# Altium footprint library niceCircuits.PcbLib: 25 footprints (part 1 of 2)
Each footprint in its own frame and in the unit in brackets; x right, y up, seen from the top. Pads: shape width x height; smd on the part's side, far side on the other; paste and mask are expansions set on the pad; w line width, h text height; cw(c..) or ccw(c..) is an arc to the next point about the centre after c.
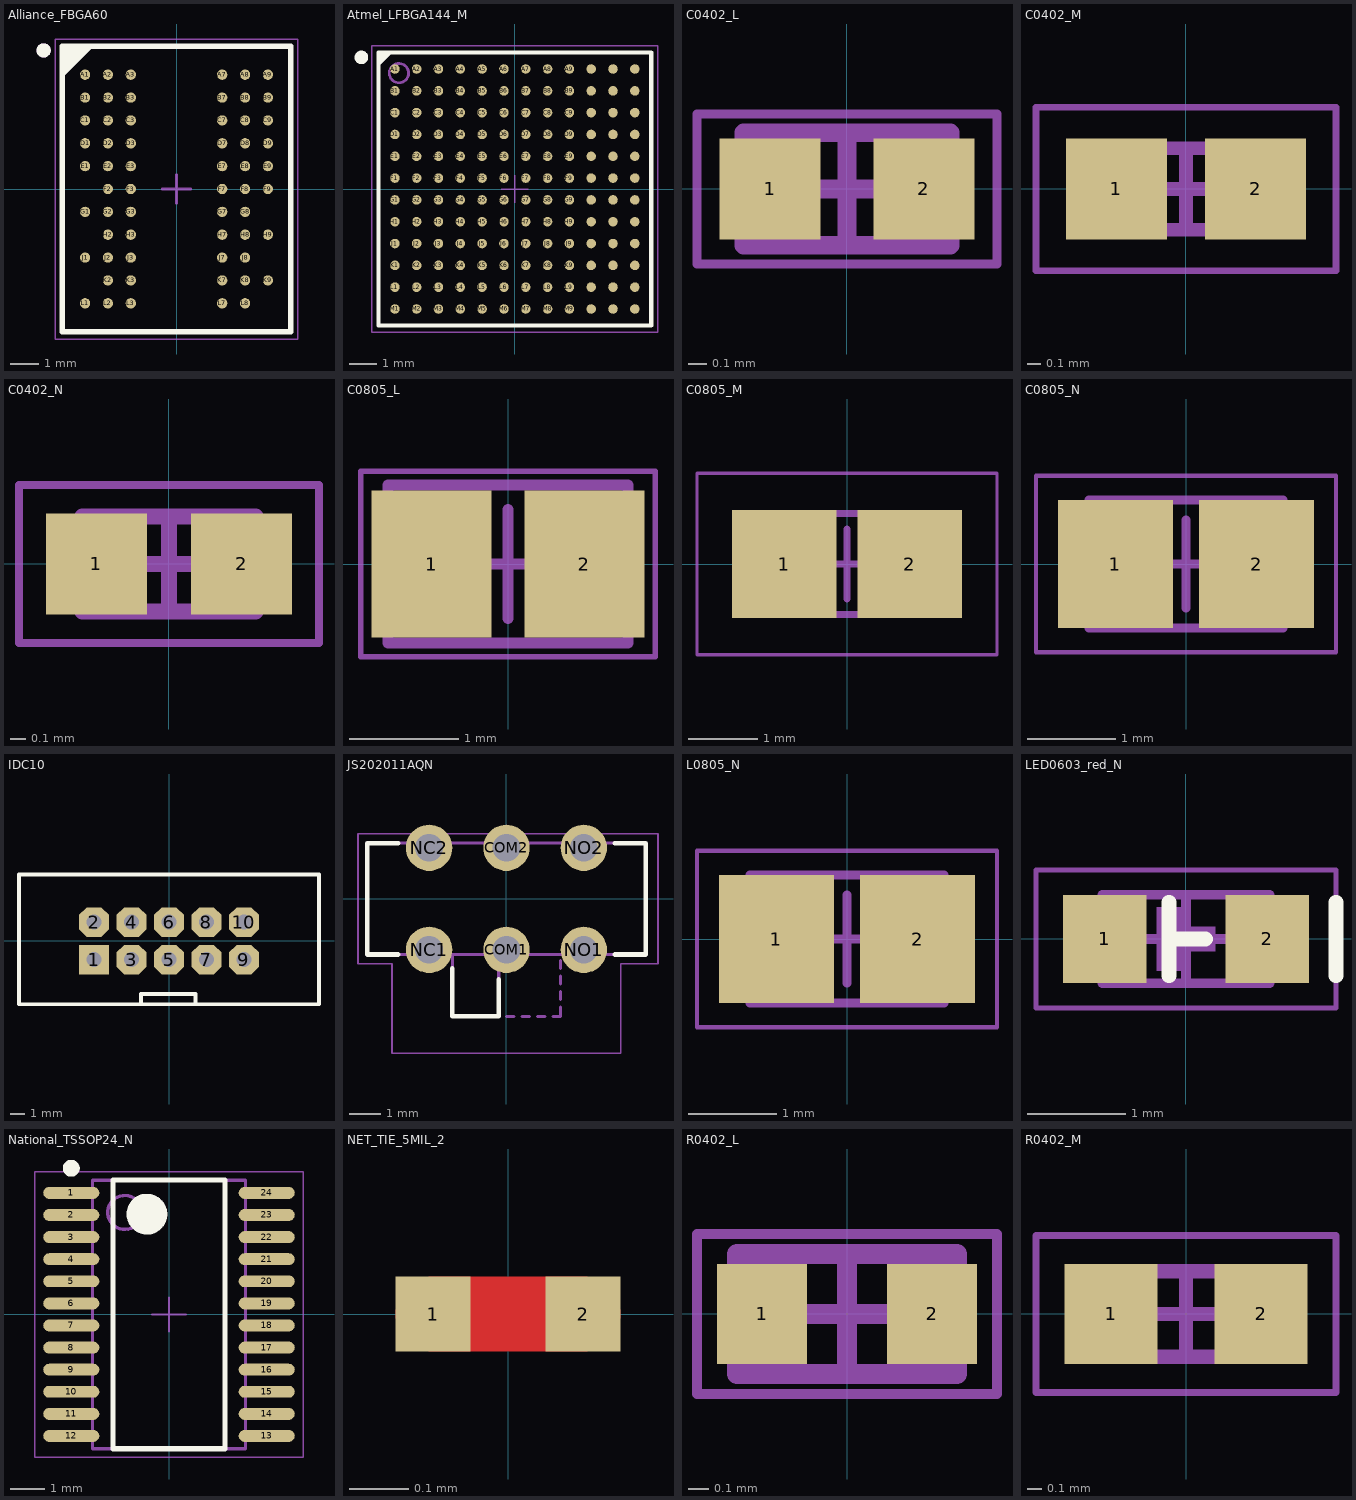
[diagram p0: the footprints below, top view; thin cyan lines are the x and y axes]

## Alliance_FBGA60 [mm] "BGA, 60-Leads, Body 8.00x10.00mmx1.20mm, Pitch 0.80mm"
height 1.2
pads (60):
  round 0.36 smd: A1(-3.2,4) A2(-2.4,4) A3(-1.6,4) A7(1.6,4) A8(2.4,4) A9(3.2,4) B1(-3.2,3.2) B2(-2.4,3.2) B3(-1.6,3.2) B7(1.6,3.2) B8(2.4,3.2) B9(3.2,3.2) C1(-3.2,2.4) C2(-2.4,2.4) C3(-1.6,2.4) C7(1.6,2.4) C8(2.4,2.4) C9(3.2,2.4) D1(-3.2,1.6) D2(-2.4,1.6) D3(-1.6,1.6) D7(1.6,1.6) D8(2.4,1.6) D9(3.2,1.6) E1(-3.2,0.8) E2(-2.4,0.8) E3(-1.6,0.8) E7(1.6,0.8) E8(2.4,0.8) E9(3.2,0.8) F2(-2.4,0) F3(-1.6,0) F7(1.6,0) F8(2.4,0) F9(3.2,0) G1(-3.2,-0.8) G2(-2.4,-0.8) G3(-1.6,-0.8) G7(1.6,-0.8) G8(2.4,-0.8) H2(-2.4,-1.6) H3(-1.6,-1.6) H7(1.6,-1.6) H8(2.4,-1.6) H9(3.2,-1.6) J1(-3.2,-2.4) J2(-2.4,-2.4) J3(-1.6,-2.4) J7(1.6,-2.4) J8(2.4,-2.4) K2(-2.4,-3.2) K3(-1.6,-3.2) K7(1.6,-3.2) K8(2.4,-3.2) K9(3.2,-3.2) L1(-3.2,-4) L2(-2.4,-4) L3(-1.6,-4) L7(1.6,-4) L8(2.4,-4)
Top Overlay:
  circle w0.25: c-4.65,4.85 r0.125
  region: -3.02,5 -4,4.02 -4,5
  lines w0.2: -4,4.02 -3.02,5 ; -4,-5 4,-5 4,5 -4,5 -4,-5
AsmT:
  circle w0.25: c-4.65,4.85 r0.125
  region: -3.02,5 -4,4.02 -4,5
  lines w0.1: -4,-5 4,-5 4,5 -4,5 -4,-5
  text ".Designator" at 0.4,2.5 h0.5
  text ".Comment" at -0.7,2.5 h0.5
CourtT:
  lines w0.05: -4.25,-5.25 4.25,-5.25 4.25,5.25 -4.25,5.25 -4.25,-5.25
  lines w0.1: -0.5,0 0.5,0 ; 0,-0.5 0,0.5
3D body: height 1.2, standoff 0.25, extent -4,-5 4,5

## Atmel_LFBGA144_M [mm] "BGA, 144-Leads, Body 10.0x10.0mm,  Pitch 0.80mm"
height 1.4
pads (144):
  round 0.35 smd: A1(-4.4,4.4) A2(-3.6,4.4) A3(-2.8,4.4) A4(-2,4.4) A5(-1.2,4.4) A6(-0.4,4.4) A7(0.4,4.4) A8(1.2,4.4) A9(2,4.4) A10(2.8,4.4) A11(3.6,4.4) A12(4.4,4.4) B1(-4.4,3.6) B2(-3.6,3.6) B3(-2.8,3.6) B4(-2,3.6) B5(-1.2,3.6) B6(-0.4,3.6) B7(0.4,3.6) B8(1.2,3.6) B9(2,3.6) B10(2.8,3.6) B11(3.6,3.6) B12(4.4,3.6) C1(-4.4,2.8) C2(-3.6,2.8) C3(-2.8,2.8) C4(-2,2.8) C5(-1.2,2.8) C6(-0.4,2.8) C7(0.4,2.8) C8(1.2,2.8) C9(2,2.8) C10(2.8,2.8) C11(3.6,2.8) C12(4.4,2.8) D1(-4.4,2) D2(-3.6,2) D3(-2.8,2) D4(-2,2) D5(-1.2,2) D6(-0.4,2) D7(0.4,2) D8(1.2,2) D9(2,2) D10(2.8,2) D11(3.6,2) D12(4.4,2) E1(-4.4,1.2) E2(-3.6,1.2) E3(-2.8,1.2) E4(-2,1.2) E5(-1.2,1.2) E6(-0.4,1.2) E7(0.4,1.2) E8(1.2,1.2) E9(2,1.2) E10(2.8,1.2) E11(3.6,1.2) E12(4.4,1.2) F1(-4.4,0.4) F2(-3.6,0.4) F3(-2.8,0.4) F4(-2,0.4) F5(-1.2,0.4) F6(-0.4,0.4) F7(0.4,0.4) F8(1.2,0.4) F9(2,0.4) F10(2.8,0.4) F11(3.6,0.4) F12(4.4,0.4) G1(-4.4,-0.4) G2(-3.6,-0.4) G3(-2.8,-0.4) G4(-2,-0.4) G5(-1.2,-0.4) G6(-0.4,-0.4) G7(0.4,-0.4) G8(1.2,-0.4) G9(2,-0.4) G10(2.8,-0.4) G11(3.6,-0.4) G12(4.4,-0.4) H1(-4.4,-1.2) H2(-3.6,-1.2) H3(-2.8,-1.2) H4(-2,-1.2) H5(-1.2,-1.2) H6(-0.4,-1.2) H7(0.4,-1.2) H8(1.2,-1.2) H9(2,-1.2) H10(2.8,-1.2) H11(3.6,-1.2) H12(4.4,-1.2) J1(-4.4,-2) J2(-3.6,-2) J3(-2.8,-2) J4(-2,-2) J5(-1.2,-2) J6(-0.4,-2) J7(0.4,-2) J8(1.2,-2) J9(2,-2) J10(2.8,-2) J11(3.6,-2) J12(4.4,-2) K1(-4.4,-2.8) K2(-3.6,-2.8) K3(-2.8,-2.8) K4(-2,-2.8) K5(-1.2,-2.8) K6(-0.4,-2.8) K7(0.4,-2.8) K8(1.2,-2.8) K9(2,-2.8) K10(2.8,-2.8) K11(3.6,-2.8) K12(4.4,-2.8) L1(-4.4,-3.6) L2(-3.6,-3.6) L3(-2.8,-3.6) L4(-2,-3.6) L5(-1.2,-3.6) L6(-0.4,-3.6) L7(0.4,-3.6) L8(1.2,-3.6) L9(2,-3.6) L10(2.8,-3.6) L11(3.6,-3.6) L12(4.4,-3.6) M1(-4.4,-4.4) M2(-3.6,-4.4) M3(-2.8,-4.4) M4(-2,-4.4) M5(-1.2,-4.4) M6(-0.4,-4.4) M7(0.4,-4.4) M8(1.2,-4.4) M9(2,-4.4) M10(2.8,-4.4) M11(3.6,-4.4) M12(4.4,-4.4)
Top Overlay:
  circle w0.25: c-5.626,4.826 r0.125
  region: -4.579,5 -5,4.579 -5,5
  lines w0.152: -5,4.579 -4.579,5 ; -5,-5 -5,5 5,5 5,-5 -5,-5
AsmT:
  circle w0.1: c-4.25,4.25 r0.354
  lines w0.1: -5,-5 -5,5 5,5 5,-5 -5,-5
  text ".Designator" at 0.4,2.5 h0.5
  text ".Comment" at -0.7,2.5 h0.5
CourtT:
  lines w0.05: -0.5,0 0.5,0 ; 0,-0.5 0,0.5 ; -5.25,-5.25 -5.25,5.25 5.25,5.25 5.25,-5.25 -5.25,-5.25
3D body: height 1.4, standoff 0.25, extent -5,-5 5,5

## C0402_L [mm] "Chip Capacitor, 2-Leads, Body 1.00x0.50mm, IPC High Density"
height 0.6
pads (2):
  rect 0.54x0.54 smd: 1(-0.41,0) 2(0.41,0)
AsmT:
  lines w0.1: -0.55,-0.3 -0.55,0.3 0.55,0.3 0.55,-0.3 -0.55,-0.3
  text ".Comment" at -0.8,-0.575 h0.2
  text ".Designator" at -0.8,0.425 h0.2
CourtT:
  lines w0.05: -0.8,-0.4 -0.8,0.4 0.8,0.4 0.8,-0.4 -0.8,-0.4
  lines w0.1: -0.3,0 0.3,0 ; 0,-0.3 0,0.3
3D body: height 0.6, standoff 0, extent -0.35,-0.3 0.35,0.3
3D body: height 0.6, standoff 0, extent -0.55,-0.3 -0.35,0.3
3D body: height 0.6, standoff 0, extent 0.35,-0.3 0.55,0.3

## C0402_M [mm] "Chip Capacitor, 2-Leads, Body 1.00x0.50mm, IPC Low Density"
height 0.6
pads (2):
  rect 0.74x0.74 smd: 1(-0.51,0) 2(0.51,0)
AsmT:
  lines w0.1: -0.55,-0.3 0.55,-0.3 0.55,0.3 -0.55,0.3 -0.55,-0.3
  text ".Designator" at -1.1,0.425 h0.2
  text ".Comment" at -1.1,-0.575 h0.2
CourtT:
  lines w0.05: -1.1,-0.6 1.1,-0.6 1.1,0.6 -1.1,0.6 -1.1,-0.6
  lines w0.1: -0.3,0 0.3,0 ; 0,-0.3 0,0.3
3D body: height 0.6, standoff 0, extent 0.35,-0.3 0.55,0.3
3D body: height 0.6, standoff 0, extent -0.55,-0.3 -0.35,0.3
3D body: height 0.6, standoff 0, extent -0.35,-0.3 0.35,0.3

## C0402_N [mm] "Chip Capacitor, 2-Leads, Body 1.00x0.50mm, IPC Medium Density"
height 0.6
pads (2):
  rect 0.64x0.64 smd: 1(-0.46,0) 2(0.46,0)
AsmT:
  lines w0.1: -0.55,-0.3 0.55,-0.3 0.55,0.3 -0.55,0.3 -0.55,-0.3
  text ".Comment" at -0.95,-0.575 h0.2
  text ".Designator" at -0.95,0.425 h0.2
CourtT:
  lines w0.05: -0.95,-0.5 0.95,-0.5 0.95,0.5 -0.95,0.5 -0.95,-0.5
  lines w0.1: -0.3,0 0.3,0 ; 0,-0.3 0,0.3
3D body: height 0.6, standoff 0, extent 0.35,-0.3 0.55,0.3
3D body: height 0.6, standoff 0, extent -0.55,-0.3 -0.35,0.3
3D body: height 0.6, standoff 0, extent -0.35,-0.3 0.35,0.3

## C0805_L [mm] "Chip Capacitor, 2-Leads, Body 2.00x1.25mm, IPC High Density"
height 1.1
pads (2):
  rect 1.1x1.35 smd: 1(-0.7,0) 2(0.7,0)
AsmT:
  lines w0.1: -1.1,-0.725 1.1,-0.725 1.1,0.725 -1.1,0.725 -1.1,-0.725
  text ".Comment" at -1,-0.35 h0.2
  text ".Designator" at -1,0.2 h0.2
CourtT:
  lines w0.05: -1.35,-0.85 1.35,-0.85 1.35,0.85 -1.35,0.85 -1.35,-0.85
  lines w0.1: -0.5,0 0.5,0 ; 0,-0.5 0,0.5
3D body: height 1.1, standoff 0, extent 0.6,-0.725 1.1,0.725
3D body: height 1.1, standoff 0, extent -1.1,-0.725 -0.6,0.725
3D body: height 1.1, standoff 0, extent -0.6,-0.725 0.6,0.725

## C0805_M [mm] "Chip Capacitor, 2-Leads, Body 2.00x1.25mm, IPC Low Density"
height 1.1
pads (2):
  rect 1.5x1.55 smd: 1(-0.9,0) 2(0.9,0)
AsmT:
  lines w0.1: -1.1,-0.725 -1.1,0.725 1.1,0.725 1.1,-0.725 -1.1,-0.725
  text ".Designator" at -1,0.2 h0.2
  text ".Comment" at -1,-0.35 h0.2
CourtT:
  lines w0.05: -2.15,-1.3 -2.15,1.3 2.15,1.3 2.15,-1.3 -2.15,-1.3
  lines w0.1: -0.5,0 0.5,0 ; 0,-0.5 0,0.5
3D body: height 1.1, standoff 0, extent -0.6,-0.725 0.6,0.725
3D body: height 1.1, standoff 0, extent -1.1,-0.725 -0.6,0.725
3D body: height 1.1, standoff 0, extent 0.6,-0.725 1.1,0.725

## C0805_N [mm] "Chip Capacitor, 2-Leads, Body 2.00x1.25mm, IPC Medium Density"
height 1.1
pads (2):
  rect 1.3x1.45 smd: 1(-0.8,0) 2(0.8,0)
AsmT:
  lines w0.1: -1.1,-0.725 -1.1,0.725 1.1,0.725 1.1,-0.725 -1.1,-0.725
  text ".Comment" at -1,-0.35 h0.2
  text ".Designator" at -1,0.2 h0.2
CourtT:
  lines w0.05: -1.7,-1 -1.7,1 1.7,1 1.7,-1 -1.7,-1
  lines w0.1: -0.5,0 0.5,0 ; 0,-0.5 0,0.5
3D body: height 1.1, standoff 0, extent -0.6,-0.725 0.6,0.725
3D body: height 1.1, standoff 0, extent -1.1,-0.725 -0.6,0.725
3D body: height 1.1, standoff 0, extent 0.6,-0.725 1.1,0.725

## IDC10 [mm]
pads (10):
  rect 2x2 hole 1: 1(-5.08,-1.27)
  oct 2x2 hole 1: 2(-5.08,1.27) 3(-2.54,-1.27) 4(-2.54,1.27) 5(0,-1.27) 6(0,1.27) 7(2.54,-1.27) 8(2.54,1.27) 9(5.08,-1.27) 10(5.08,1.27)
Top Overlay:
  lines w0.254: -1.9,-4.3 -1.9,-3.6 1.8,-3.6 1.8,-4.3 ; -10.16,-4.3 -10.16,4.5 10.16,4.5 10.16,-4.3 -10.16,-4.3
AsmT:
  lines w0.051: -1.9,-4.318 -1.9,-3.6 1.8,-3.6 1.8,-4.318 ; -10.16,-4.318 10.16,-4.318 10.16,4.572 -10.16,4.572 -10.16,-4.318
  text ".Comment" at -2.286,-1.016 h0.6
  text ".Designator" at -2.794,0.254 h0.6
Mechanical 29:
  lines w0.051: -1.9,-4.318 -1.9,-3.6 1.8,-3.6 1.8,-4.318 ; -10.16,-4.318 -10.16,4.572 10.16,4.572 10.16,-4.318 -10.16,-4.318
  text ".Designator" at -2.794,0.254 h0.6
  text ".Comment" at -2.286,-1.016 h0.6
3D body: height 9, standoff -3.5, extent -10.16,-4.325 10.16,4.475

## JS202011AQN [mm]
pads (6):
  round 1.5 hole 0.9: COM1(0,-1.65) COM2(0,1.65) NC1(-2.5,-1.65) NC2(-2.5,1.65) NO1(2.5,-1.65) NO2(2.5,1.65)
Top Overlay:
  lines w0.152: -3.5,-1.8 -4.5,-1.8 -4.5,1.8 -3.5,1.8 ; -1.75,-2.25 -1.75,-3.8 -0.25,-3.8 -0.25,-2.6 ; 3.5,-1.8 4.5,-1.8 4.5,1.8 3.5,1.8
AsmT:
  lines w0.1: -1.75,-1.8 -1.75,-3.8 -0.25,-3.8 -0.25,-1.8 ; 0,-3.8 0.25,-3.8 ; 0.5,-3.8 0.75,-3.8 ; 1,-3.8 1.25,-3.8 ; 1.5,-3.8 1.75,-3.8 1.75,-3.5 ; 1.75,-3.25 1.75,-3 ; 1.75,-2.75 1.75,-2.5 ; 1.75,-2.25 1.75,-2 ; -4.5,-1.8 4.5,-1.8 4.5,1.8 -4.5,1.8 -4.5,-1.8
  text ".Designator" at -2.794,0.254 h0.6
  text ".Comment" at -2.286,-1.016 h0.6
CourtT:
  lines w0.05: -4.8,-2.1 -4.8,2.1 4.9,2.1 4.9,-2.1 3.7,-2.1 3.7,-5 -3.7,-5 -3.7,-2.1 -4.8,-2.1
3D body: height 3.5, standoff 0, extent -4.5,-1.8 4.5,1.8
3D body: height 3.25, standoff 1.75, extent -1.75,-3.8 -0.25,-1.8
3D body: height 0, standoff -3, extent -2.8,-1.8 -2.2,-1.5
3D body: height 0, standoff -3, extent -0.3,-1.8 0.3,-1.5
3D body: height 0, standoff -3, extent 2.2,-1.8 2.8,-1.5
3D body: height 0, standoff -3, extent 2.2,1.5 2.8,1.8
3D body: height 0, standoff -3, extent -0.3,1.5 0.3,1.8
3D body: height 0, standoff -3, extent -2.8,1.5 -2.2,1.8

## L0805_N [mm] "Chip Inductor, 2-Leads, Body 2.00x1.25mm, IPC Medium Density"
height 1.1
pads (2):
  rect 1.3x1.45 smd: 1(-0.8,0) 2(0.8,0)
AsmT:
  lines w0.1: -1.1,-0.725 1.1,-0.725 1.1,0.725 -1.1,0.725 -1.1,-0.725
  text ".Designator" at -1,0.2 h0.2
  text ".Comment" at -1,-0.35 h0.2
CourtT:
  lines w0.05: -1.7,-1 1.7,-1 1.7,1 -1.7,1 -1.7,-1
  lines w0.1: -0.5,0 0.5,0 ; 0,-0.5 0,0.5
3D body: height 1.1, standoff 0, extent 0.6,-0.725 1.1,0.725
3D body: height 1.1, standoff 0, extent -1.1,-0.725 -0.6,0.725
3D body: height 1.1, standoff 0, extent -0.6,-0.725 0.6,0.725

## LED0603_red_N [mm] "LED Red Body 1.6x0.8mm, IPC Medium Density"
height 1.1
pads (2):
  rect 0.85x0.9 smd: 1(-0.825,0) 2(0.825,0)
Top Overlay:
  lines w0.152: -0.175,0 0.2,0 ; -0.174,-0.374 -0.174,0.374 ; 1.526,-0.374 1.526,0.374
AsmT:
  rectangle: 0.65,-0.45 0.85,0.45
  rectangle: -0.3,-0.325 -0.05,0.325
  rectangle: -0.05,-0.125 0.3,0.125
  lines w0.1: -0.85,-0.45 -0.85,0.45 0.85,0.45 0.85,-0.45 -0.85,-0.45
  text ".Comment" at -1.3,-0.725 h0.2
  text ".Designator" at -1.3,0.575 h0.2
CourtT:
  lines w0.05: -1.525,-0.7 -1.525,0.7 1.525,0.7 1.525,-0.7 -1.525,-0.7
  lines w0.1: -0.45,0 0.45,0 ; 0,-0.45 0,0.45
3D body: height 0.5, standoff 0, extent -0.85,-0.45 0.85,0.45
3D body: height 1.1, standoff 0.5, extent -0.6,-0.45 0.6,0.45

## National_TSSOP24_N [mm] "TSOP, 24-Leads, Body 7.9x4.5mm (max), Pitch 0.65mm, IPC Medium Density"
height 1.1
pads (24):
  oval 1.65x0.35 smd: 1(-2.875,3.575) 2(-2.875,2.925) 3(-2.875,2.275) 4(-2.875,1.625) 5(-2.875,0.975) 6(-2.875,0.325) 7(-2.875,-0.325) 8(-2.875,-0.975) 9(-2.875,-1.625) 10(-2.875,-2.275) 11(-2.875,-2.925) 12(-2.875,-3.575) 13(2.875,-3.575) 14(2.875,-2.925) 15(2.875,-2.275) 16(2.875,-1.625) 17(2.875,-0.975) 18(2.875,-0.325) 19(2.875,0.325) 20(2.875,0.975) 21(2.875,1.625) 22(2.875,2.275) 23(2.875,2.925) 24(2.875,3.575)
Top Overlay:
  circle w0.6: c-0.65,2.95 r0.3
  circle w0.25: c-2.875,4.3 r0.125
  lines w0.152: -1.65,-3.95 1.65,-3.95 1.65,3.95 -1.65,3.95 -1.65,-3.95
AsmT:
  circle w0.1: c-1.3,3 r0.5
  lines w0.1: -2.25,-3.95 2.25,-3.95 2.25,3.95 -2.25,3.95 -2.25,-3.95
  text ".Designator" at 0.5,3.5 h0.5
  text ".Comment" at -0.45,3.5 h0.5
CourtT:
  lines w0.05: -0.5,0 0.5,0 ; 0,-0.5 0,0.5 ; -3.95,-4.2 3.95,-4.2 3.95,4.2 -3.95,4.2 -3.95,-4.2
3D body: height 1.2, standoff 0, extent -3.25,-3.95 3.3,3.95

## NET_TIE_5MIL_2 [mil] "5mil net tie with 2 pins"
pads (2):
  rect 5x5 smd paste-10 mask-10: 1(-5,0) 2(5,0)
Top Layer:
  lines w5: -5,0 5,0

## R0402_L [mm] "Chip Resistor, 2-Leads, Body 1.05x0.54mm, IPC High Density"
height 0.4
pads (2):
  rect 0.45x0.5 smd: 1(-0.425,0) 2(0.425,0)
AsmT:
  lines w0.1: -0.55,-0.3 0.55,-0.3 0.55,0.3 -0.55,0.3 -0.55,-0.3
  text ".Designator" at -0.8,0.425 h0.2
  text ".Comment" at -0.8,-0.575 h0.2
CourtT:
  lines w0.05: -0.75,-0.4 0.75,-0.4 0.75,0.4 -0.75,0.4 -0.75,-0.4
  lines w0.1: -0.3,0 0.3,0 ; 0,-0.3 0,0.3
3D body: height 0.4, standoff 0, extent -0.35,-0.3 0.35,0.3
3D body: height 0.4, standoff 0, extent 0.5,-0.3 0.55,0.3
3D body: height 0.4, standoff 0, extent -0.55,-0.3 -0.35,0.3
3D body: height 0.4, standoff 0, extent -0.55,-0.3 -0.35,0.3
3D body: height 0.4, standoff 0, extent 0.35,-0.3 0.55,0.3
3D body: height 0.4, standoff 0, extent 0.35,-0.3 0.55,0.3
3D body: height 0.4, standoff 0, extent -0.55,-0.3 -0.5,0.3
3D body: height 0.4, standoff 0, extent -0.5,-0.3 0.5,0.3

## R0402_M [mm] "Chip Resistor, 2-Leads, Body 1.05x0.54mm, IPC Low Density"
height 0.4
pads (2):
  rect 0.65x0.7 smd: 1(-0.525,0) 2(0.525,0)
AsmT:
  lines w0.1: -0.55,-0.3 0.55,-0.3 0.55,0.3 -0.55,0.3 -0.55,-0.3
  text ".Designator" at -1.05,0.425 h0.2
  text ".Comment" at -1.05,-0.575 h0.2
CourtT:
  lines w0.05: -1.05,-0.55 1.05,-0.55 1.05,0.55 -1.05,0.55 -1.05,-0.55
  lines w0.1: -0.3,0 0.3,0 ; 0,-0.3 0,0.3
3D body: height 0.4, standoff 0, extent -0.5,-0.3 0.5,0.3
3D body: height 0.4, standoff 0, extent -0.55,-0.3 -0.5,0.3
3D body: height 0.4, standoff 0, extent 0.35,-0.3 0.55,0.3
3D body: height 0.4, standoff 0, extent 0.35,-0.3 0.55,0.3
3D body: height 0.4, standoff 0, extent -0.55,-0.3 -0.35,0.3
3D body: height 0.4, standoff 0, extent -0.55,-0.3 -0.35,0.3
3D body: height 0.4, standoff 0, extent 0.5,-0.3 0.55,0.3
3D body: height 0.4, standoff 0, extent -0.35,-0.3 0.35,0.3